# Altium footprint library lun.PcbLib: 19 footprints (part 2 of 2)
Each footprint in its own frame and in the unit in brackets; x right, y up, seen from the top. Pads: shape width x height; smd on the part's side, far side on the other; paste and mask are expansions set on the pad; w line width, h text height; cw(c..) or ccw(c..) is an arc to the next point about the centre after c.
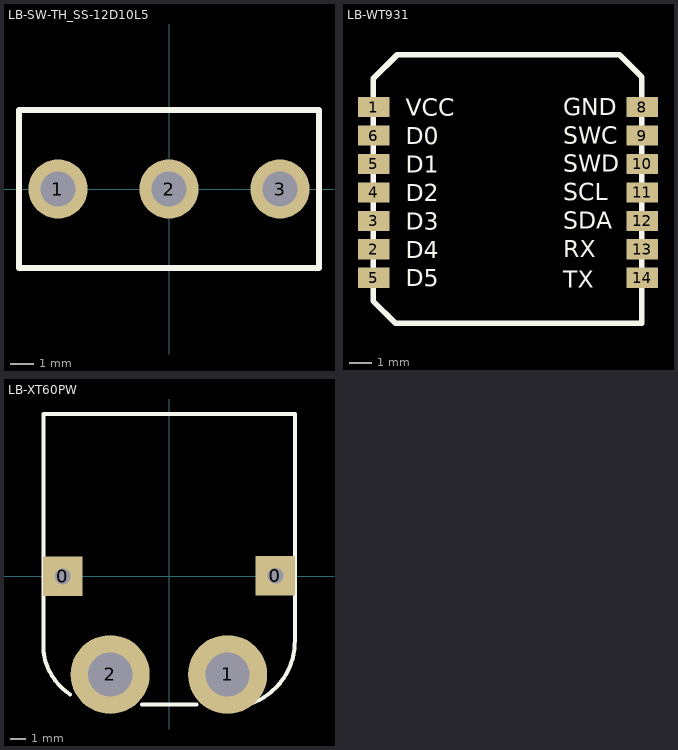
[diagram p1: the footprints below, top view; thin cyan lines are the x and y axes]

## LB-SW-TH_SS-12D10L5 [mm]
pads (3):
  round 2.5 hole 1.5: 1(-4.7,0) 2(0,0) 3(4.7,0)
Top Overlay:
  lines w0.254: -6.35,-3.35 6.35,-3.35 6.35,3.35 -6.35,3.35 -6.35,-3.35

## LB-WT931 [mm]
pads (14):
  rect 1.4x0.9 smd: 1(12.812,13.866) 2(12.812,7.516) 3(12.812,8.786) 4(12.812,10.056) 5(12.812,6.246) 5(12.812,11.326) 6(12.812,12.596) 8(24.812,13.866) 9(24.812,12.596) 10(24.812,11.326) 11(24.812,10.056) 12(24.812,8.786) 13(24.812,7.516) 14(24.812,6.246)
Top Overlay:
  lines w0.254: 12.786,5.209 13.786,4.209 24.786,4.209 24.786,15.209 23.786,16.209 13.864,16.209 12.786,15.131 12.786,5.209
  text "TX" at 21.28,5.794 h0.76
  text "RX" at 21.28,7.16 h0.76
  text "SDA" at 21.28,8.43 h0.76
  text "SCL" at 21.28,9.7 h0.76
  text "SWD" at 21.28,10.97 h0.76
  text "SWC" at 21.28,12.24 h0.76
  text "GND" at 21.28,13.51 h0.76
  text "D5" at 14.249,5.855 h0.76
  text "D4" at 14.249,7.125 h0.76
  text "D3" at 14.249,8.395 h0.76
  text "D2" at 14.249,9.665 h0.76
  text "D1" at 14.249,10.935 h0.76
  text "D0" at 14.249,12.205 h0.76
  text "VCC" at 14.249,13.475 h0.76

## LB-XT60PW [mm]
pads (4):
  rect 2.5x2.5 hole 1 square: 0(-6.725,-0.025) 0(6.725,0.025)
  round 5 hole 2.8: 1(3.7,-6.225) 2(-3.725,-6.225)
Top Overlay:
  lines w0.254: -7.95,10.225 -7.95,-4.786 ccw(c-4.129,-4.275) -6.256,-7.49 ; -7.95,10.25 7.95,10.25 7.95,-4.152 ; -1.725,-8.125 1.725,-8.125 ; 4.359,-8.255 ccw(c3.81,-4.152) 7.949,-4.257
3D body "User Library-XT60PW-M20_Connector.STEP": height 2.4, standoff -9, extent -8.025,-8.05 7.975,10.35